# Altium integrated library Dallas Memory Non-Volatile RAM.IntLib: 259 symbols (part 3 of 6)
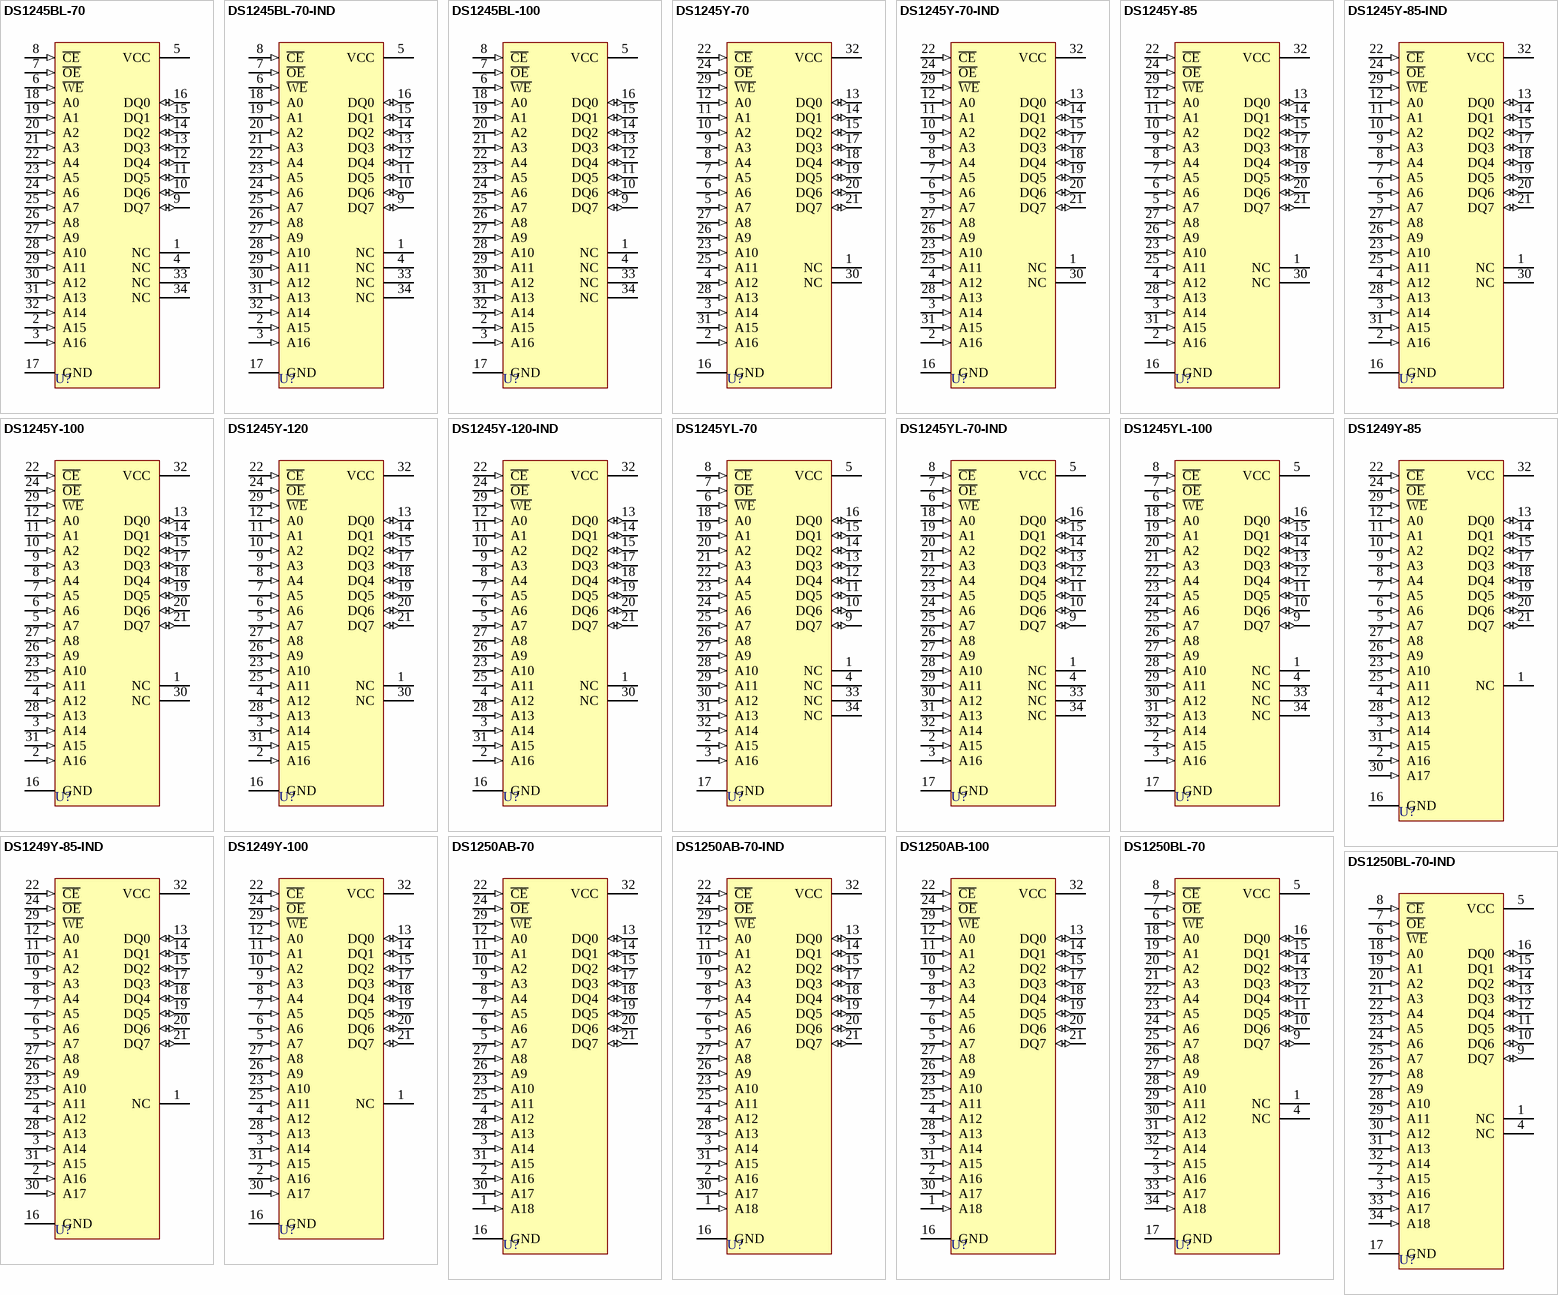
[diagram p13: symbols DS1245BL-70 to DS1250BL-70-IND]

## DS1250BL-70-IND
designator U?
4096K Nonvolatile SRAM; Note: Pin numbers 1 and 4 are Not Connected (NC); Published: 13-Oct-2000; LatestRevisionDate: 17-Jul-2002; LatestRevisionNote: Re-released for DXP Platform.; DatasheetVersion: 25-Feb-1998; PackageVersion: Feb-1998; PackageReference: LPM34; Publisher: Altium Limited; PackageDescription: LPM; 34 Leads; Body 24.6 x 25 mm (LxW typ); Pitch 1.27 mm; ComponentLink1Description: Manufacturer Link; ComponentLink1URL: http://www.maxim-ic.com/; ComponentLink2Description: Datasheet; ComponentLink2URL: http://pdfserv.maxim-ic.com/en/ds/DS1233M.pdf
footprint LPM34
pins: 1 NC, 2 A15 (in), 3 A16 (in), 4 NC, 5 VCC (power), 6 ~{WE} (in), 7 ~{OE} (in), 8 ~{CE} (in), 9 DQ7 (io), 10 DQ6 (io), 11 DQ5 (io), 12 DQ4 (io), 13 DQ3 (io), 14 DQ2 (io), 15 DQ1 (io), 16 DQ0 (io), 17 GND (power), 18 A0 (in), 19 A1 (in), 20 A2 (in), 21 A3 (in), 22 A4 (in), 23 A5 (in), 24 A6 (in), 25 A7 (in), 26 A8 (in), 27 A9 (in), 28 A10 (in), 29 A11 (in), 30 A12 (in), 31 A13 (in), 32 A14 (in), 33 A17 (in), 34 A18 (in)

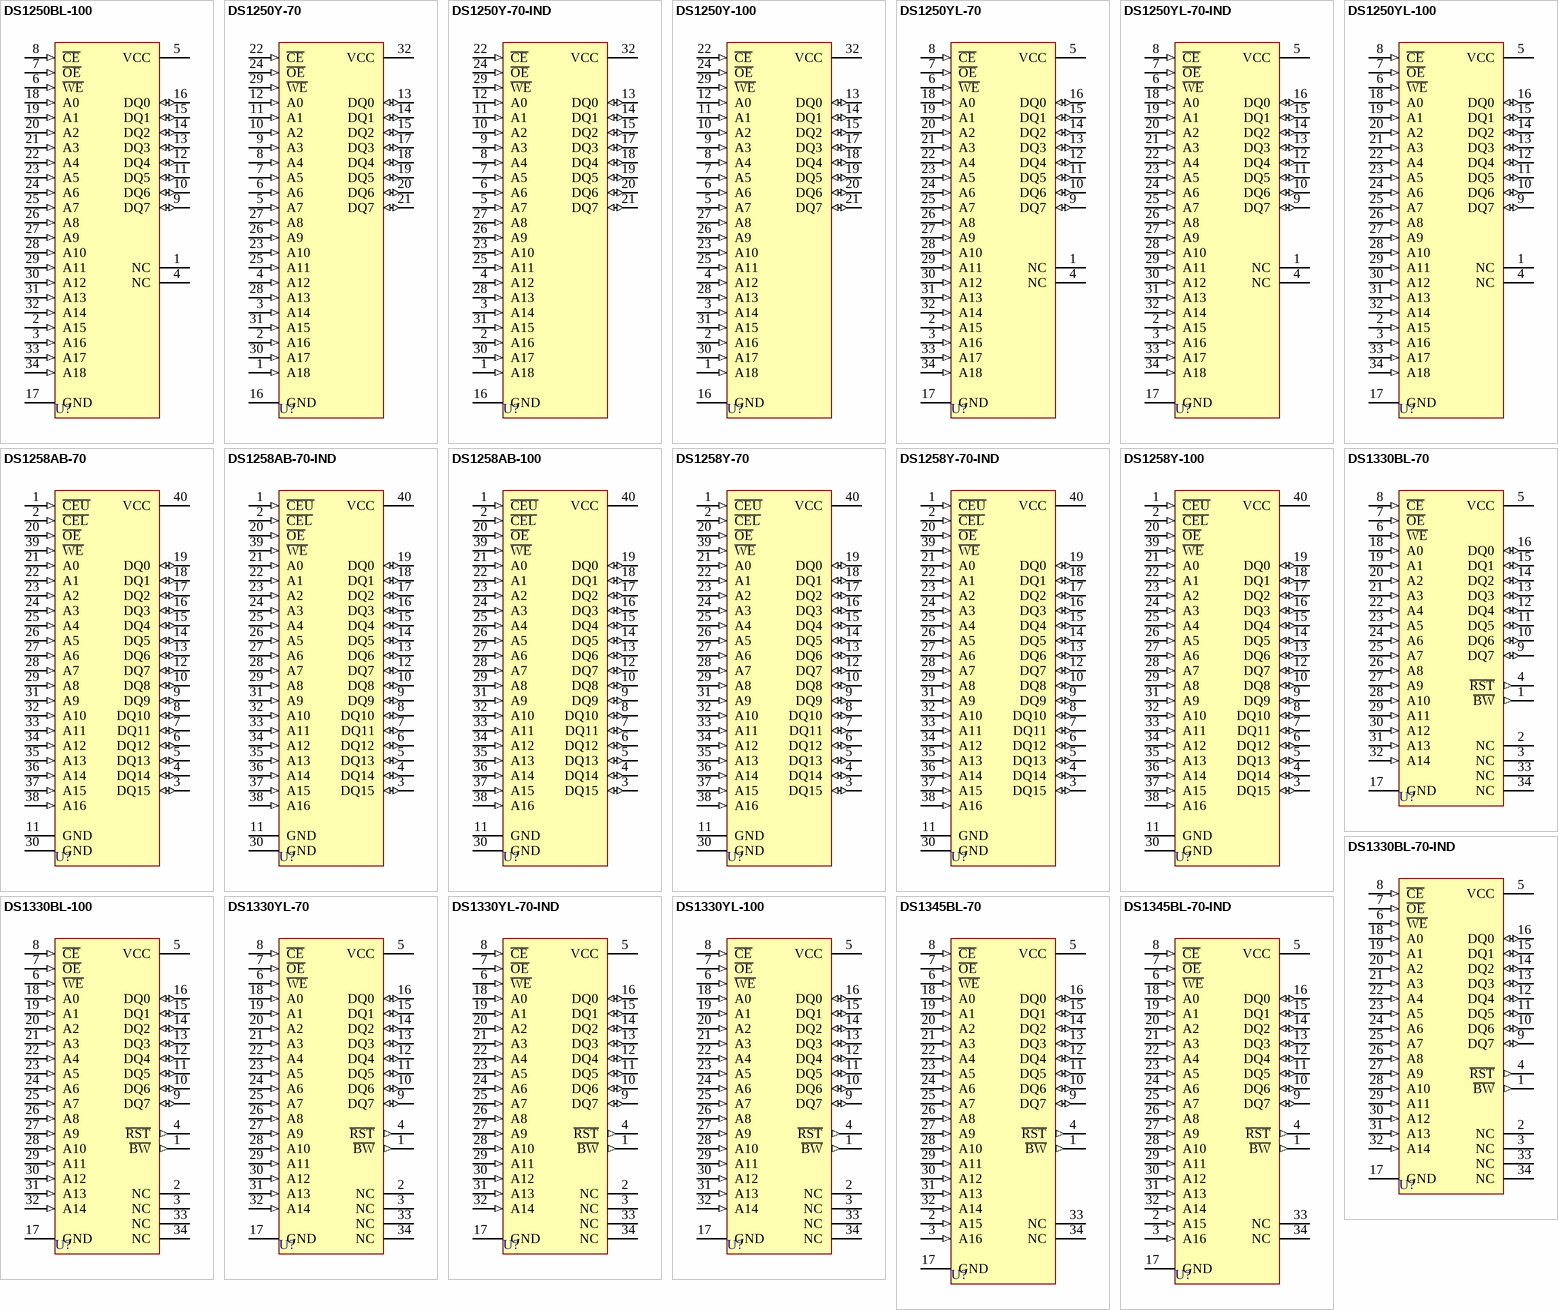
[diagram p4: symbols DS1250BL-100 to DS1345BL-70-IND]

## DS1250BL-100
designator U?
4096K Nonvolatile SRAM; Note: Pin numbers 1 and 4 are Not Connected (NC); Published: 13-Oct-2000; LatestRevisionDate: 17-Jul-2002; LatestRevisionNote: Re-released for DXP Platform.; DatasheetVersion: 25-Feb-1998; PackageVersion: Feb-1998; PackageReference: LPM34; Publisher: Altium Limited; PackageDescription: LPM; 34 Leads; Body 24.6 x 25 mm (LxW typ); Pitch 1.27 mm; ComponentLink1Description: Manufacturer Link; ComponentLink1URL: http://www.maxim-ic.com/; ComponentLink2Description: Datasheet; ComponentLink2URL: http://pdfserv.maxim-ic.com/en/ds/DS1233M.pdf
footprint LPM34
pins: 1 NC, 2 A15 (in), 3 A16 (in), 4 NC, 5 VCC (power), 6 ~{WE} (in), 7 ~{OE} (in), 8 ~{CE} (in), 9 DQ7 (io), 10 DQ6 (io), 11 DQ5 (io), 12 DQ4 (io), 13 DQ3 (io), 14 DQ2 (io), 15 DQ1 (io), 16 DQ0 (io), 17 GND (power), 18 A0 (in), 19 A1 (in), 20 A2 (in), 21 A3 (in), 22 A4 (in), 23 A5 (in), 24 A6 (in), 25 A7 (in), 26 A8 (in), 27 A9 (in), 28 A10 (in), 29 A11 (in), 30 A12 (in), 31 A13 (in), 32 A14 (in), 33 A17 (in), 34 A18 (in)

## DS1250Y-70
designator U?
4096K Nonvolatile SRAM; Published: 13-Oct-2000; LatestRevisionDate: 17-Jul-2002; LatestRevisionNote: PCB footprint, 'DIP-P32/X1.2' replaced; Re-released for DXP Platform.; DatasheetVersion: 23-Apr-1998; PackageReference: ENDIP32; Publisher: Altium Limited; PackageDescription: DIP; 32 Rectangular Pins; Row Space 15.24 mm; Pitch 2.54 mm; ComponentLink1Description: Manufacturer Link; ComponentLink1URL: http://www.maxim-ic.com/; ComponentLink2Description: Datasheet; ComponentLink2URL: http://pdfserv.maxim-ic.com/en/ds/DS1233M.pdf
footprint ENDIP32 (DIP; 32 Rectangular Pins; Row Space 15.24 mm; Pitch 2.54 mm)
pins: 1 A18 (in), 2 A16 (in), 3 A14 (in), 4 A12 (in), 5 A7 (in), 6 A6 (in), 7 A5 (in), 8 A4 (in), 9 A3 (in), 10 A2 (in), 11 A1 (in), 12 A0 (in), 13 DQ0 (io), 14 DQ1 (io), 15 DQ2 (io), 16 GND (power), 17 DQ3 (io), 18 DQ4 (io), 19 DQ5 (io), 20 DQ6 (io), 21 DQ7 (io), 22 ~{CE} (in), 23 A10 (in), 24 ~{OE} (in), 25 A11 (in), 26 A9 (in), 27 A8 (in), 28 A13 (in), 29 ~{WE} (in), 30 A17 (in), 31 A15 (in), 32 VCC (power)

## DS1250Y-70-IND
designator U?
4096K Nonvolatile SRAM; Published: 13-Oct-2000; LatestRevisionDate: 17-Jul-2002; LatestRevisionNote: PCB footprint, 'DIP-P32/X1.2' replaced; Re-released for DXP Platform.; DatasheetVersion: 23-Apr-1998; PackageReference: ENDIP32; Publisher: Altium Limited; PackageDescription: DIP; 32 Rectangular Pins; Row Space 15.24 mm; Pitch 2.54 mm; ComponentLink1Description: Manufacturer Link; ComponentLink1URL: http://www.maxim-ic.com/; ComponentLink2Description: Datasheet; ComponentLink2URL: http://pdfserv.maxim-ic.com/en/ds/DS1250AB-DS1250Y.pdf
footprint ENDIP32 (DIP; 32 Rectangular Pins; Row Space 15.24 mm; Pitch 2.54 mm)
pins: 1 A18 (in), 2 A16 (in), 3 A14 (in), 4 A12 (in), 5 A7 (in), 6 A6 (in), 7 A5 (in), 8 A4 (in), 9 A3 (in), 10 A2 (in), 11 A1 (in), 12 A0 (in), 13 DQ0 (io), 14 DQ1 (io), 15 DQ2 (io), 16 GND (power), 17 DQ3 (io), 18 DQ4 (io), 19 DQ5 (io), 20 DQ6 (io), 21 DQ7 (io), 22 ~{CE} (in), 23 A10 (in), 24 ~{OE} (in), 25 A11 (in), 26 A9 (in), 27 A8 (in), 28 A13 (in), 29 ~{WE} (in), 30 A17 (in), 31 A15 (in), 32 VCC (power)

## DS1250Y-100
designator U?
4096K Nonvolatile SRAM; Published: 13-Oct-2000; LatestRevisionDate: 17-Jul-2002; LatestRevisionNote: PCB footprint, 'DIP-P32/X1.2' replaced; Re-released for DXP Platform.; DatasheetVersion: 23-Apr-1998; PackageReference: ENDIP32; Publisher: Altium Limited; PackageDescription: DIP; 32 Rectangular Pins; Row Space 15.24 mm; Pitch 2.54 mm; ComponentLink1Description: Manufacturer Link; ComponentLink1URL: http://www.maxim-ic.com/; ComponentLink2Description: Datasheet; ComponentLink2URL: http://pdfserv.maxim-ic.com/en/ds/DS1233M.pdf
footprint ENDIP32 (DIP; 32 Rectangular Pins; Row Space 15.24 mm; Pitch 2.54 mm)
pins: 1 A18 (in), 2 A16 (in), 3 A14 (in), 4 A12 (in), 5 A7 (in), 6 A6 (in), 7 A5 (in), 8 A4 (in), 9 A3 (in), 10 A2 (in), 11 A1 (in), 12 A0 (in), 13 DQ0 (io), 14 DQ1 (io), 15 DQ2 (io), 16 GND (power), 17 DQ3 (io), 18 DQ4 (io), 19 DQ5 (io), 20 DQ6 (io), 21 DQ7 (io), 22 ~{CE} (in), 23 A10 (in), 24 ~{OE} (in), 25 A11 (in), 26 A9 (in), 27 A8 (in), 28 A13 (in), 29 ~{WE} (in), 30 A17 (in), 31 A15 (in), 32 VCC (power)

## DS1250YL-70
designator U?
4096K Nonvolatile SRAM; Note: Pin numbers 1 and 4 are Not Connected (NC); Published: 13-Oct-2000; LatestRevisionDate: 17-Jul-2002; LatestRevisionNote: Re-released for DXP Platform.; DatasheetVersion: 25-Feb-1998; PackageVersion: Feb-1998; PackageReference: LPM34; Publisher: Altium Limited; PackageDescription: LPM; 34 Leads; Body 24.6 x 25 mm (LxW typ); Pitch 1.27 mm; ComponentLink1Description: Manufacturer Link; ComponentLink1URL: http://www.maxim-ic.com/; ComponentLink2Description: Datasheet; ComponentLink2URL: http://pdfserv.maxim-ic.com/en/ds/DS1233M.pdf
footprint LPM34
pins: 1 NC, 2 A15 (in), 3 A16 (in), 4 NC, 5 VCC (power), 6 ~{WE} (in), 7 ~{OE} (in), 8 ~{CE} (in), 9 DQ7 (io), 10 DQ6 (io), 11 DQ5 (io), 12 DQ4 (io), 13 DQ3 (io), 14 DQ2 (io), 15 DQ1 (io), 16 DQ0 (io), 17 GND (power), 18 A0 (in), 19 A1 (in), 20 A2 (in), 21 A3 (in), 22 A4 (in), 23 A5 (in), 24 A6 (in), 25 A7 (in), 26 A8 (in), 27 A9 (in), 28 A10 (in), 29 A11 (in), 30 A12 (in), 31 A13 (in), 32 A14 (in), 33 A17 (in), 34 A18 (in)

## DS1250YL-70-IND
designator U?
4096K Nonvolatile SRAM; Note: Pin numbers 1 and 4 are Not Connected (NC); Published: 13-Oct-2000; LatestRevisionDate: 17-Jul-2002; LatestRevisionNote: Re-released for DXP Platform.; DatasheetVersion: 25-Feb-1998; PackageVersion: Feb-1998; PackageReference: LPM34; Publisher: Altium Limited; PackageDescription: LPM; 34 Leads; Body 24.6 x 25 mm (LxW typ); Pitch 1.27 mm; ComponentLink1Description: Manufacturer Link; ComponentLink1URL: http://www.maxim-ic.com/; ComponentLink2Description: Datasheet; ComponentLink2URL: http://pdfserv.maxim-ic.com/en/ds/DS1250AB-DS1250Y.pdf
footprint LPM34
pins: 1 NC, 2 A15 (in), 3 A16 (in), 4 NC, 5 VCC (power), 6 ~{WE} (in), 7 ~{OE} (in), 8 ~{CE} (in), 9 DQ7 (io), 10 DQ6 (io), 11 DQ5 (io), 12 DQ4 (io), 13 DQ3 (io), 14 DQ2 (io), 15 DQ1 (io), 16 DQ0 (io), 17 GND (power), 18 A0 (in), 19 A1 (in), 20 A2 (in), 21 A3 (in), 22 A4 (in), 23 A5 (in), 24 A6 (in), 25 A7 (in), 26 A8 (in), 27 A9 (in), 28 A10 (in), 29 A11 (in), 30 A12 (in), 31 A13 (in), 32 A14 (in), 33 A17 (in), 34 A18 (in)

## DS1250YL-100
designator U?
4096K Nonvolatile SRAM; Note: Pin numbers 1 and 4 are Not Connected (NC); Published: 13-Oct-2000; LatestRevisionDate: 17-Jul-2002; LatestRevisionNote: Re-released for DXP Platform.; DatasheetVersion: 25-Feb-1998; PackageVersion: Feb-1998; PackageReference: LPM34; Publisher: Altium Limited; PackageDescription: LPM; 34 Leads; Body 24.6 x 25 mm (LxW typ); Pitch 1.27 mm; ComponentLink1Description: Manufacturer Link; ComponentLink1URL: http://www.maxim-ic.com/; ComponentLink2Description: Datasheet; ComponentLink2URL: http://pdfserv.maxim-ic.com/en/ds/DS1233M.pdf
footprint LPM34
pins: 1 NC, 2 A15 (in), 3 A16 (in), 4 NC, 5 VCC (power), 6 ~{WE} (in), 7 ~{OE} (in), 8 ~{CE} (in), 9 DQ7 (io), 10 DQ6 (io), 11 DQ5 (io), 12 DQ4 (io), 13 DQ3 (io), 14 DQ2 (io), 15 DQ1 (io), 16 DQ0 (io), 17 GND (power), 18 A0 (in), 19 A1 (in), 20 A2 (in), 21 A3 (in), 22 A4 (in), 23 A5 (in), 24 A6 (in), 25 A7 (in), 26 A8 (in), 27 A9 (in), 28 A10 (in), 29 A11 (in), 30 A12 (in), 31 A13 (in), 32 A14 (in), 33 A17 (in), 34 A18 (in)

## DS1258AB-70
designator U?
128K x 16 Nonvolatile SRAM; Published: 13-Oct-2000; LatestRevisionDate: 17-Jul-2002; LatestRevisionNote: Re-released for DXP Platform.; DatasheetVersion: 25-Feb-1998; PackageReference: ENDIP40; Publisher: Altium Limited; PackageDescription: DIP; 40 Rectangular Pins; Row Space 15.24 mm; Pitch 2.54 mm; ComponentLink1Description: Manufacturer Link; ComponentLink1URL: http://www.maxim-ic.com/; ComponentLink2Description: Datasheet; ComponentLink2URL: http://pdfserv.maxim-ic.com/en/ds/DS1233M.pdf
footprint ENDIP40 (DIP; 40 Rectangular Pins; Row Space 15.24 mm; Pitch 2.54 mm)
pins: 1 ~{CEU} (in), 2 ~{CEL} (in), 3 DQ15 (io), 4 DQ14 (io), 5 DQ13 (io), 6 DQ12 (io), 7 DQ11 (io), 8 DQ10 (io), 9 DQ9 (io), 10 DQ8 (io), 11 GND (power), 12 DQ7 (io), 13 DQ6 (io), 14 DQ5 (io), 15 DQ4 (io), 16 DQ3 (io), 17 DQ2 (io), 18 DQ1 (io), 19 DQ0 (io), 20 ~{OE} (in), 21 A0 (in), 22 A1 (in), 23 A2 (in), 24 A3 (in), 25 A4 (in), 26 A5 (in), 27 A6 (in), 28 A7 (in), 29 A8 (in), 30 GND (power), 31 A9 (in), 32 A10 (in), 33 A11 (in), 34 A12 (in), 35 A13 (in), 36 A14 (in), 37 A15 (in), 38 A16 (in), 39 ~{WE} (in), 40 VCC (power)

## DS1258AB-70-IND
designator U?
128K x 16 Nonvolatile SRAM; Published: 13-Oct-2000; LatestRevisionDate: 17-Jul-2002; LatestRevisionNote: Re-released for DXP Platform.; DatasheetVersion: 25-Feb-1998; PackageReference: ENDIP40; Publisher: Altium Limited; PackageDescription: DIP; 40 Rectangular Pins; Row Space 15.24 mm; Pitch 2.54 mm; ComponentLink1Description: Manufacturer Link; ComponentLink1URL: http://www.maxim-ic.com/; ComponentLink2Description: Datasheet; ComponentLink2URL: http://pdfserv.maxim-ic.com/en/ds/DS1233M.pdf
footprint ENDIP40 (DIP; 40 Rectangular Pins; Row Space 15.24 mm; Pitch 2.54 mm)
pins: 1 ~{CEU} (in), 2 ~{CEL} (in), 3 DQ15 (io), 4 DQ14 (io), 5 DQ13 (io), 6 DQ12 (io), 7 DQ11 (io), 8 DQ10 (io), 9 DQ9 (io), 10 DQ8 (io), 11 GND (power), 12 DQ7 (io), 13 DQ6 (io), 14 DQ5 (io), 15 DQ4 (io), 16 DQ3 (io), 17 DQ2 (io), 18 DQ1 (io), 19 DQ0 (io), 20 ~{OE} (in), 21 A0 (in), 22 A1 (in), 23 A2 (in), 24 A3 (in), 25 A4 (in), 26 A5 (in), 27 A6 (in), 28 A7 (in), 29 A8 (in), 30 GND (power), 31 A9 (in), 32 A10 (in), 33 A11 (in), 34 A12 (in), 35 A13 (in), 36 A14 (in), 37 A15 (in), 38 A16 (in), 39 ~{WE} (in), 40 VCC (power)

## DS1258AB-100
designator U?
128K x 16 Nonvolatile SRAM; Published: 13-Oct-2000; LatestRevisionDate: 17-Jul-2002; LatestRevisionNote: Re-released for DXP Platform.; DatasheetVersion: 25-Feb-1998; PackageReference: ENDIP40; Publisher: Altium Limited; PackageDescription: DIP; 40 Rectangular Pins; Row Space 15.24 mm; Pitch 2.54 mm; ComponentLink1Description: Manufacturer Link; ComponentLink1URL: http://www.maxim-ic.com/; ComponentLink2Description: Datasheet; ComponentLink2URL: http://pdfserv.maxim-ic.com/en/ds/DS1233M.pdf
footprint ENDIP40 (DIP; 40 Rectangular Pins; Row Space 15.24 mm; Pitch 2.54 mm)
pins: 1 ~{CEU} (in), 2 ~{CEL} (in), 3 DQ15 (io), 4 DQ14 (io), 5 DQ13 (io), 6 DQ12 (io), 7 DQ11 (io), 8 DQ10 (io), 9 DQ9 (io), 10 DQ8 (io), 11 GND (power), 12 DQ7 (io), 13 DQ6 (io), 14 DQ5 (io), 15 DQ4 (io), 16 DQ3 (io), 17 DQ2 (io), 18 DQ1 (io), 19 DQ0 (io), 20 ~{OE} (in), 21 A0 (in), 22 A1 (in), 23 A2 (in), 24 A3 (in), 25 A4 (in), 26 A5 (in), 27 A6 (in), 28 A7 (in), 29 A8 (in), 30 GND (power), 31 A9 (in), 32 A10 (in), 33 A11 (in), 34 A12 (in), 35 A13 (in), 36 A14 (in), 37 A15 (in), 38 A16 (in), 39 ~{WE} (in), 40 VCC (power)

## DS1258Y-70
designator U?
128K x 16 Nonvolatile SRAM; Published: 13-Oct-2000; LatestRevisionDate: 17-Jul-2002; LatestRevisionNote: Re-released for DXP Platform.; DatasheetVersion: 25-Feb-1998; PackageReference: ENDIP40; Publisher: Altium Limited; PackageDescription: DIP; 40 Rectangular Pins; Row Space 15.24 mm; Pitch 2.54 mm; ComponentLink1Description: Manufacturer Link; ComponentLink1URL: http://www.maxim-ic.com/; ComponentLink2Description: Datasheet; ComponentLink2URL: http://pdfserv.maxim-ic.com/en/ds/DS1233M.pdf
footprint ENDIP40 (DIP; 40 Rectangular Pins; Row Space 15.24 mm; Pitch 2.54 mm)
pins: 1 ~{CEU} (in), 2 ~{CEL} (in), 3 DQ15 (io), 4 DQ14 (io), 5 DQ13 (io), 6 DQ12 (io), 7 DQ11 (io), 8 DQ10 (io), 9 DQ9 (io), 10 DQ8 (io), 11 GND (power), 12 DQ7 (io), 13 DQ6 (io), 14 DQ5 (io), 15 DQ4 (io), 16 DQ3 (io), 17 DQ2 (io), 18 DQ1 (io), 19 DQ0 (io), 20 ~{OE} (in), 21 A0 (in), 22 A1 (in), 23 A2 (in), 24 A3 (in), 25 A4 (in), 26 A5 (in), 27 A6 (in), 28 A7 (in), 29 A8 (in), 30 GND (power), 31 A9 (in), 32 A10 (in), 33 A11 (in), 34 A12 (in), 35 A13 (in), 36 A14 (in), 37 A15 (in), 38 A16 (in), 39 ~{WE} (in), 40 VCC (power)

## DS1258Y-70-IND
designator U?
128K x 16 Nonvolatile SRAM; Published: 13-Oct-2000; LatestRevisionDate: 17-Jul-2002; LatestRevisionNote: Re-released for DXP Platform.; DatasheetVersion: 25-Feb-1998; PackageReference: ENDIP40; Publisher: Altium Limited; PackageDescription: DIP; 40 Rectangular Pins; Row Space 15.24 mm; Pitch 2.54 mm; ComponentLink1Description: Manufacturer Link; ComponentLink1URL: http://www.maxim-ic.com/; ComponentLink2Description: Datasheet; ComponentLink2URL: http://pdfserv.maxim-ic.com/en/ds/DS1258AB-DS1258Y.pdf
footprint ENDIP40 (DIP; 40 Rectangular Pins; Row Space 15.24 mm; Pitch 2.54 mm)
pins: 1 ~{CEU} (in), 2 ~{CEL} (in), 3 DQ15 (io), 4 DQ14 (io), 5 DQ13 (io), 6 DQ12 (io), 7 DQ11 (io), 8 DQ10 (io), 9 DQ9 (io), 10 DQ8 (io), 11 GND (power), 12 DQ7 (io), 13 DQ6 (io), 14 DQ5 (io), 15 DQ4 (io), 16 DQ3 (io), 17 DQ2 (io), 18 DQ1 (io), 19 DQ0 (io), 20 ~{OE} (in), 21 A0 (in), 22 A1 (in), 23 A2 (in), 24 A3 (in), 25 A4 (in), 26 A5 (in), 27 A6 (in), 28 A7 (in), 29 A8 (in), 30 GND (power), 31 A9 (in), 32 A10 (in), 33 A11 (in), 34 A12 (in), 35 A13 (in), 36 A14 (in), 37 A15 (in), 38 A16 (in), 39 ~{WE} (in), 40 VCC (power)

## DS1258Y-100
designator U?
128K x 16 Nonvolatile SRAM; Published: 13-Oct-2000; LatestRevisionDate: 17-Jul-2002; LatestRevisionNote: Re-released for DXP Platform.; DatasheetVersion: 25-Feb-1998; PackageReference: ENDIP40; Publisher: Altium Limited; PackageDescription: DIP; 40 Rectangular Pins; Row Space 15.24 mm; Pitch 2.54 mm; ComponentLink1Description: Manufacturer Link; ComponentLink1URL: http://www.maxim-ic.com/; ComponentLink2Description: Datasheet; ComponentLink2URL: http://pdfserv.maxim-ic.com/en/ds/DS1233M.pdf
footprint ENDIP40 (DIP; 40 Rectangular Pins; Row Space 15.24 mm; Pitch 2.54 mm)
pins: 1 ~{CEU} (in), 2 ~{CEL} (in), 3 DQ15 (io), 4 DQ14 (io), 5 DQ13 (io), 6 DQ12 (io), 7 DQ11 (io), 8 DQ10 (io), 9 DQ9 (io), 10 DQ8 (io), 11 GND (power), 12 DQ7 (io), 13 DQ6 (io), 14 DQ5 (io), 15 DQ4 (io), 16 DQ3 (io), 17 DQ2 (io), 18 DQ1 (io), 19 DQ0 (io), 20 ~{OE} (in), 21 A0 (in), 22 A1 (in), 23 A2 (in), 24 A3 (in), 25 A4 (in), 26 A5 (in), 27 A6 (in), 28 A7 (in), 29 A8 (in), 30 GND (power), 31 A9 (in), 32 A10 (in), 33 A11 (in), 34 A12 (in), 35 A13 (in), 36 A14 (in), 37 A15 (in), 38 A16 (in), 39 ~{WE} (in), 40 VCC (power)

## DS1330BL-70
designator U?
256K Nonvolatile SRAM with Battery Monitor; Note: Pin numbers 2, 3, 33 and 34 are Not Connected (NC); Published: 13-Oct-2000; LatestRevisionDate: 17-Jul-2002; LatestRevisionNote: Re-released for DXP Platform.; DatasheetVersion: 25-Feb-1998; PackageVersion: Feb-1998; PackageReference: LPM34; Publisher: Altium Limited; PackageDescription: LPM; 34 Leads; Body 24.6 x 25 mm (LxW typ); Pitch 1.27 mm; ComponentLink1Description: Manufacturer Link; ComponentLink1URL: http://www.maxim-ic.com/; ComponentLink2Description: Datasheet; ComponentLink2URL: http://pdfserv.maxim-ic.com/en/ds/DS1330AB-DS1330Y.pdf
footprint LPM34
pins: 1 ~{BW} (out), 2 NC, 3 NC, 4 ~{RST} (out), 5 VCC (power), 6 ~{WE} (in), 7 ~{OE} (in), 8 ~{CE} (in), 9 DQ7 (io), 10 DQ6 (io), 11 DQ5 (io), 12 DQ4 (io), 13 DQ3 (io), 14 DQ2 (io), 15 DQ1 (io), 16 DQ0 (io), 17 GND (power), 18 A0 (in), 19 A1 (in), 20 A2 (in), 21 A3 (in), 22 A4 (in), 23 A5 (in), 24 A6 (in), 25 A7 (in), 26 A8 (in), 27 A9 (in), 28 A10 (in), 29 A11 (in), 30 A12 (in), 31 A13 (in), 32 A14 (in), 33 NC, 34 NC

## DS1330BL-70-IND
designator U?
256K Nonvolatile SRAM with Battery Monitor; Note: Pin numbers 2, 3, 33 and 34 are Not Connected (NC); Published: 13-Oct-2000; LatestRevisionDate: 17-Jul-2002; LatestRevisionNote: Re-released for DXP Platform.; DatasheetVersion: 25-Feb-1998; PackageVersion: Feb-1998; PackageReference: LPM34; Publisher: Altium Limited; PackageDescription: LPM; 34 Leads; Body 24.6 x 25 mm (LxW typ); Pitch 1.27 mm; ComponentLink1Description: Manufacturer Link; ComponentLink1URL: http://www.maxim-ic.com/; ComponentLink2Description: Datasheet; ComponentLink2URL: http://pdfserv.maxim-ic.com/en/ds/DS1330AB-DS1330Y.pdf
footprint LPM34
pins: 1 ~{BW} (out), 2 NC, 3 NC, 4 ~{RST} (out), 5 VCC (power), 6 ~{WE} (in), 7 ~{OE} (in), 8 ~{CE} (in), 9 DQ7 (io), 10 DQ6 (io), 11 DQ5 (io), 12 DQ4 (io), 13 DQ3 (io), 14 DQ2 (io), 15 DQ1 (io), 16 DQ0 (io), 17 GND (power), 18 A0 (in), 19 A1 (in), 20 A2 (in), 21 A3 (in), 22 A4 (in), 23 A5 (in), 24 A6 (in), 25 A7 (in), 26 A8 (in), 27 A9 (in), 28 A10 (in), 29 A11 (in), 30 A12 (in), 31 A13 (in), 32 A14 (in), 33 NC, 34 NC

## DS1330BL-100
designator U?
256K Nonvolatile SRAM with Battery Monitor; Note: Pin numbers 2, 3, 33 and 34 are Not Connected (NC); Published: 13-Oct-2000; LatestRevisionDate: 17-Jul-2002; LatestRevisionNote: Re-released for DXP Platform.; DatasheetVersion: 25-Feb-1998; PackageVersion: Feb-1998; PackageReference: LPM34; Publisher: Altium Limited; PackageDescription: LPM; 34 Leads; Body 24.6 x 25 mm (LxW typ); Pitch 1.27 mm; ComponentLink1Description: Manufacturer Link; ComponentLink1URL: http://www.maxim-ic.com/; ComponentLink2Description: Datasheet; ComponentLink2URL: http://pdfserv.maxim-ic.com/en/ds/DS1330AB-DS1330Y.pdf
footprint LPM34
pins: 1 ~{BW} (out), 2 NC, 3 NC, 4 ~{RST} (out), 5 VCC (power), 6 ~{WE} (in), 7 ~{OE} (in), 8 ~{CE} (in), 9 DQ7 (io), 10 DQ6 (io), 11 DQ5 (io), 12 DQ4 (io), 13 DQ3 (io), 14 DQ2 (io), 15 DQ1 (io), 16 DQ0 (io), 17 GND (power), 18 A0 (in), 19 A1 (in), 20 A2 (in), 21 A3 (in), 22 A4 (in), 23 A5 (in), 24 A6 (in), 25 A7 (in), 26 A8 (in), 27 A9 (in), 28 A10 (in), 29 A11 (in), 30 A12 (in), 31 A13 (in), 32 A14 (in), 33 NC, 34 NC

## DS1330YL-70
designator U?
256K Nonvolatile SRAM with Battery Monitor; Note: Pin numbers 2, 3, 33 and 34 are Not Connected (NC); Published: 13-Oct-2000; LatestRevisionDate: 17-Jul-2002; LatestRevisionNote: Re-released for DXP Platform.; DatasheetVersion: 25-Feb-1998; PackageVersion: Feb-1998; PackageReference: LPM34; Publisher: Altium Limited; PackageDescription: LPM; 34 Leads; Body 24.6 x 25 mm (LxW typ); Pitch 1.27 mm; ComponentLink1Description: Manufacturer Link; ComponentLink1URL: http://www.maxim-ic.com/; ComponentLink2Description: Datasheet; ComponentLink2URL: http://pdfserv.maxim-ic.com/en/ds/DS1330AB-DS1330Y.pdf
footprint LPM34
pins: 1 ~{BW} (out), 2 NC, 3 NC, 4 ~{RST} (out), 5 VCC (power), 6 ~{WE} (in), 7 ~{OE} (in), 8 ~{CE} (in), 9 DQ7 (io), 10 DQ6 (io), 11 DQ5 (io), 12 DQ4 (io), 13 DQ3 (io), 14 DQ2 (io), 15 DQ1 (io), 16 DQ0 (io), 17 GND (power), 18 A0 (in), 19 A1 (in), 20 A2 (in), 21 A3 (in), 22 A4 (in), 23 A5 (in), 24 A6 (in), 25 A7 (in), 26 A8 (in), 27 A9 (in), 28 A10 (in), 29 A11 (in), 30 A12 (in), 31 A13 (in), 32 A14 (in), 33 NC, 34 NC

## DS1330YL-70-IND
designator U?
256K Nonvolatile SRAM with Battery Monitor; Note: Pin numbers 2, 3, 33 and 34 are Not Connected (NC); Published: 13-Oct-2000; LatestRevisionDate: 17-Jul-2002; LatestRevisionNote: Re-released for DXP Platform.; DatasheetVersion: 25-Feb-1998; PackageVersion: Feb-1998; PackageReference: LPM34; Publisher: Altium Limited; PackageDescription: LPM; 34 Leads; Body 24.6 x 25 mm (LxW typ); Pitch 1.27 mm; ComponentLink1Description: Manufacturer Link; ComponentLink1URL: http://www.maxim-ic.com/; ComponentLink2Description: Datasheet; ComponentLink2URL: http://pdfserv.maxim-ic.com/en/ds/DS1330AB-DS1330Y.pdf
footprint LPM34
pins: 1 ~{BW} (out), 2 NC, 3 NC, 4 ~{RST} (out), 5 VCC (power), 6 ~{WE} (in), 7 ~{OE} (in), 8 ~{CE} (in), 9 DQ7 (io), 10 DQ6 (io), 11 DQ5 (io), 12 DQ4 (io), 13 DQ3 (io), 14 DQ2 (io), 15 DQ1 (io), 16 DQ0 (io), 17 GND (power), 18 A0 (in), 19 A1 (in), 20 A2 (in), 21 A3 (in), 22 A4 (in), 23 A5 (in), 24 A6 (in), 25 A7 (in), 26 A8 (in), 27 A9 (in), 28 A10 (in), 29 A11 (in), 30 A12 (in), 31 A13 (in), 32 A14 (in), 33 NC, 34 NC

## DS1330YL-100
designator U?
256K Nonvolatile SRAM with Battery Monitor; Note: Pin numbers 2, 3, 33 and 34 are Not Connected (NC); Published: 13-Oct-2000; LatestRevisionDate: 17-Jul-2002; LatestRevisionNote: Re-released for DXP Platform.; DatasheetVersion: 25-Feb-1998; PackageVersion: Feb-1998; PackageReference: LPM34; Publisher: Altium Limited; PackageDescription: LPM; 34 Leads; Body 24.6 x 25 mm (LxW typ); Pitch 1.27 mm; ComponentLink1Description: Manufacturer Link; ComponentLink1URL: http://www.maxim-ic.com/; ComponentLink2Description: Datasheet; ComponentLink2URL: http://pdfserv.maxim-ic.com/en/ds/DS1330AB-DS1330Y.pdf
footprint LPM34
pins: 1 ~{BW} (out), 2 NC, 3 NC, 4 ~{RST} (out), 5 VCC (power), 6 ~{WE} (in), 7 ~{OE} (in), 8 ~{CE} (in), 9 DQ7 (io), 10 DQ6 (io), 11 DQ5 (io), 12 DQ4 (io), 13 DQ3 (io), 14 DQ2 (io), 15 DQ1 (io), 16 DQ0 (io), 17 GND (power), 18 A0 (in), 19 A1 (in), 20 A2 (in), 21 A3 (in), 22 A4 (in), 23 A5 (in), 24 A6 (in), 25 A7 (in), 26 A8 (in), 27 A9 (in), 28 A10 (in), 29 A11 (in), 30 A12 (in), 31 A13 (in), 32 A14 (in), 33 NC, 34 NC

## DS1345BL-70
designator U?
1024K Nonvolatile SRAM with Battery Monitor; Note: Pin numbers 33 and 34 are Not Connected (NC); Published: 13-Oct-2000; LatestRevisionDate: 17-Jul-2002; LatestRevisionNote: Re-released for DXP Platform.; DatasheetVersion: 25-Feb-1998; PackageVersion: Feb-1998; PackageReference: LPM34; Publisher: Altium Limited; PackageDescription: LPM; 34 Leads; Body 24.6 x 25 mm (LxW typ); Pitch 1.27 mm; ComponentLink1Description: Manufacturer Link; ComponentLink1URL: http://www.maxim-ic.com/; ComponentLink2Description: Datasheet; ComponentLink2URL: http://pdfserv.maxim-ic.com/en/ds/DS1345AB-DS1345Y.pdf
footprint LPM34
pins: 1 ~{BW} (out), 2 A15 (in), 3 A16 (in), 4 ~{RST} (out), 5 VCC (power), 6 ~{WE} (in), 7 ~{OE} (in), 8 ~{CE} (in), 9 DQ7 (io), 10 DQ6 (io), 11 DQ5 (io), 12 DQ4 (io), 13 DQ3 (io), 14 DQ2 (io), 15 DQ1 (io), 16 DQ0 (io), 17 GND (power), 18 A0 (in), 19 A1 (in), 20 A2 (in), 21 A3 (in), 22 A4 (in), 23 A5 (in), 24 A6 (in), 25 A7 (in), 26 A8 (in), 27 A9 (in), 28 A10 (in), 29 A11 (in), 30 A12 (in), 31 A13 (in), 32 A14 (in), 33 NC, 34 NC

## DS1345BL-70-IND
designator U?
1024K Nonvolatile SRAM with Battery Monitor; Note: Pin numbers 33 and 34 are Not Connected (NC); Published: 13-Oct-2000; LatestRevisionDate: 17-Jul-2002; LatestRevisionNote: Re-released for DXP Platform.; DatasheetVersion: 25-Feb-1998; PackageVersion: Feb-1998; PackageReference: LPM34; Publisher: Altium Limited; PackageDescription: LPM; 34 Leads; Body 24.6 x 25 mm (LxW typ); Pitch 1.27 mm; ComponentLink1Description: Manufacturer Link; ComponentLink1URL: http://www.maxim-ic.com/; ComponentLink2Description: Datasheet; ComponentLink2URL: http://pdfserv.maxim-ic.com/en/ds/DS1345AB-DS1345Y.pdf
footprint LPM34
pins: 1 ~{BW} (out), 2 A15 (in), 3 A16 (in), 4 ~{RST} (out), 5 VCC (power), 6 ~{WE} (in), 7 ~{OE} (in), 8 ~{CE} (in), 9 DQ7 (io), 10 DQ6 (io), 11 DQ5 (io), 12 DQ4 (io), 13 DQ3 (io), 14 DQ2 (io), 15 DQ1 (io), 16 DQ0 (io), 17 GND (power), 18 A0 (in), 19 A1 (in), 20 A2 (in), 21 A3 (in), 22 A4 (in), 23 A5 (in), 24 A6 (in), 25 A7 (in), 26 A8 (in), 27 A9 (in), 28 A10 (in), 29 A11 (in), 30 A12 (in), 31 A13 (in), 32 A14 (in), 33 NC, 34 NC

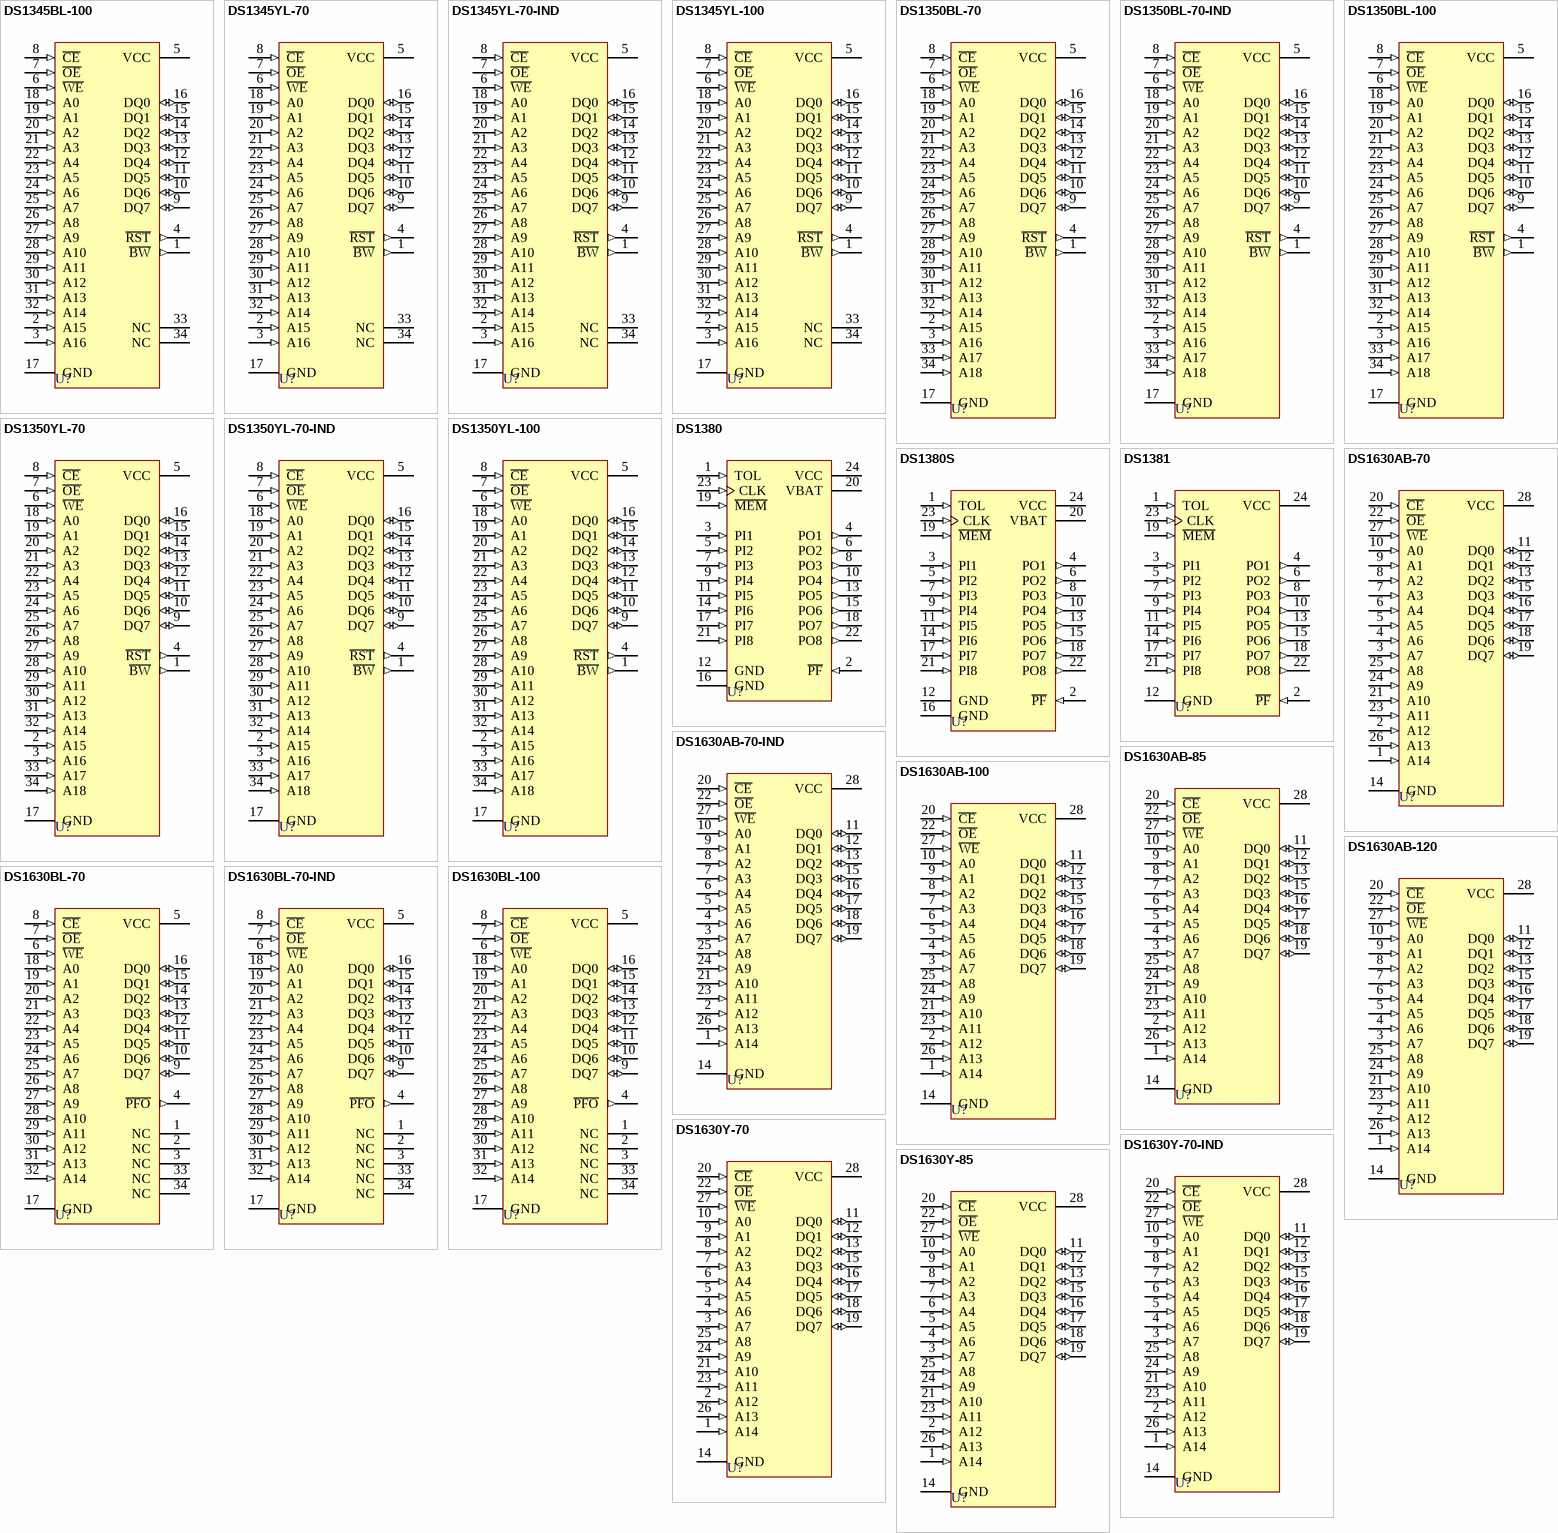
[diagram p5: symbols DS1345BL-100 to DS1630Y-85]

## DS1345BL-100
designator U?
1024K Nonvolatile SRAM with Battery Monitor; Note: Pin numbers 33 and 34 are Not Connected (NC); Published: 13-Oct-2000; LatestRevisionDate: 17-Jul-2002; LatestRevisionNote: Re-released for DXP Platform.; DatasheetVersion: 25-Feb-1998; PackageVersion: Feb-1998; PackageReference: LPM34; Publisher: Altium Limited; PackageDescription: LPM; 34 Leads; Body 24.6 x 25 mm (LxW typ); Pitch 1.27 mm; ComponentLink1Description: Manufacturer Link; ComponentLink1URL: http://www.maxim-ic.com/; ComponentLink2Description: Datasheet; ComponentLink2URL: http://pdfserv.maxim-ic.com/en/ds/DS1345AB-DS1345Y.pdf
footprint LPM34
pins: 1 ~{BW} (out), 2 A15 (in), 3 A16 (in), 4 ~{RST} (out), 5 VCC (power), 6 ~{WE} (in), 7 ~{OE} (in), 8 ~{CE} (in), 9 DQ7 (io), 10 DQ6 (io), 11 DQ5 (io), 12 DQ4 (io), 13 DQ3 (io), 14 DQ2 (io), 15 DQ1 (io), 16 DQ0 (io), 17 GND (power), 18 A0 (in), 19 A1 (in), 20 A2 (in), 21 A3 (in), 22 A4 (in), 23 A5 (in), 24 A6 (in), 25 A7 (in), 26 A8 (in), 27 A9 (in), 28 A10 (in), 29 A11 (in), 30 A12 (in), 31 A13 (in), 32 A14 (in), 33 NC, 34 NC

## DS1345YL-70
designator U?
1024K Nonvolatile SRAM with Battery Monitor; Note: Pin numbers 33 and 34 are Not Connected (NC); Published: 13-Oct-2000; LatestRevisionDate: 17-Jul-2002; LatestRevisionNote: Re-released for DXP Platform.; DatasheetVersion: 25-Feb-1998; PackageVersion: Feb-1998; PackageReference: LPM34; Publisher: Altium Limited; PackageDescription: LPM; 34 Leads; Body 24.6 x 25 mm (LxW typ); Pitch 1.27 mm; ComponentLink1Description: Manufacturer Link; ComponentLink1URL: http://www.maxim-ic.com/; ComponentLink2Description: Datasheet; ComponentLink2URL: http://pdfserv.maxim-ic.com/en/ds/DS1345AB-DS1345Y.pdf
footprint LPM34
pins: 1 ~{BW} (out), 2 A15 (in), 3 A16 (in), 4 ~{RST} (out), 5 VCC (power), 6 ~{WE} (in), 7 ~{OE} (in), 8 ~{CE} (in), 9 DQ7 (io), 10 DQ6 (io), 11 DQ5 (io), 12 DQ4 (io), 13 DQ3 (io), 14 DQ2 (io), 15 DQ1 (io), 16 DQ0 (io), 17 GND (power), 18 A0 (in), 19 A1 (in), 20 A2 (in), 21 A3 (in), 22 A4 (in), 23 A5 (in), 24 A6 (in), 25 A7 (in), 26 A8 (in), 27 A9 (in), 28 A10 (in), 29 A11 (in), 30 A12 (in), 31 A13 (in), 32 A14 (in), 33 NC, 34 NC

## DS1345YL-70-IND
designator U?
1024K Nonvolatile SRAM with Battery Monitor; Note: Pin numbers 33 and 34 are Not Connected (NC); Published: 13-Oct-2000; LatestRevisionDate: 17-Jul-2002; LatestRevisionNote: Re-released for DXP Platform.; DatasheetVersion: 25-Feb-1998; PackageVersion: Feb-1998; PackageReference: LPM34; Publisher: Altium Limited; PackageDescription: LPM; 34 Leads; Body 24.6 x 25 mm (LxW typ); Pitch 1.27 mm; ComponentLink1Description: Manufacturer Link; ComponentLink1URL: http://www.maxim-ic.com/; ComponentLink2Description: Datasheet; ComponentLink2URL: http://pdfserv.maxim-ic.com/en/ds/DS1345AB-DS1345Y.pdf
footprint LPM34
pins: 1 ~{BW} (out), 2 A15 (in), 3 A16 (in), 4 ~{RST} (out), 5 VCC (power), 6 ~{WE} (in), 7 ~{OE} (in), 8 ~{CE} (in), 9 DQ7 (io), 10 DQ6 (io), 11 DQ5 (io), 12 DQ4 (io), 13 DQ3 (io), 14 DQ2 (io), 15 DQ1 (io), 16 DQ0 (io), 17 GND (power), 18 A0 (in), 19 A1 (in), 20 A2 (in), 21 A3 (in), 22 A4 (in), 23 A5 (in), 24 A6 (in), 25 A7 (in), 26 A8 (in), 27 A9 (in), 28 A10 (in), 29 A11 (in), 30 A12 (in), 31 A13 (in), 32 A14 (in), 33 NC, 34 NC

## DS1345YL-100
designator U?
1024K Nonvolatile SRAM with Battery Monitor; Note: Pin numbers 33 and 34 are Not Connected (NC); Published: 13-Oct-2000; LatestRevisionDate: 17-Jul-2002; LatestRevisionNote: Re-released for DXP Platform.; DatasheetVersion: 25-Feb-1998; PackageVersion: Feb-1998; PackageReference: LPM34; Publisher: Altium Limited; PackageDescription: LPM; 34 Leads; Body 24.6 x 25 mm (LxW typ); Pitch 1.27 mm; ComponentLink1Description: Manufacturer Link; ComponentLink1URL: http://www.maxim-ic.com/; ComponentLink2Description: Datasheet; ComponentLink2URL: http://pdfserv.maxim-ic.com/en/ds/DS1345AB-DS1345Y.pdf
footprint LPM34
pins: 1 ~{BW} (out), 2 A15 (in), 3 A16 (in), 4 ~{RST} (out), 5 VCC (power), 6 ~{WE} (in), 7 ~{OE} (in), 8 ~{CE} (in), 9 DQ7 (io), 10 DQ6 (io), 11 DQ5 (io), 12 DQ4 (io), 13 DQ3 (io), 14 DQ2 (io), 15 DQ1 (io), 16 DQ0 (io), 17 GND (power), 18 A0 (in), 19 A1 (in), 20 A2 (in), 21 A3 (in), 22 A4 (in), 23 A5 (in), 24 A6 (in), 25 A7 (in), 26 A8 (in), 27 A9 (in), 28 A10 (in), 29 A11 (in), 30 A12 (in), 31 A13 (in), 32 A14 (in), 33 NC, 34 NC

## DS1350BL-70
designator U?
4096K Nonvolatile SRAM with Battery Monitor; Published: 13-Oct-2000; LatestRevisionDate: 17-Jul-2002; LatestRevisionNote: Re-released for DXP Platform.; DatasheetVersion: 25-Feb-1998; PackageVersion: Feb-1998; PackageReference: LPM34; Publisher: Altium Limited; PackageDescription: LPM; 34 Leads; Body 24.6 x 25 mm (LxW typ); Pitch 1.27 mm; ComponentLink1Description: Manufacturer Link; ComponentLink1URL: http://www.maxim-ic.com/; ComponentLink2Description: Datasheet; ComponentLink2URL: http://pdfserv.maxim-ic.com/en/ds/DS1350AB-DS1350Y.pdf
footprint LPM34
pins: 1 ~{BW} (out), 2 A15 (in), 3 A16 (in), 4 ~{RST} (out), 5 VCC (power), 6 ~{WE} (in), 7 ~{OE} (in), 8 ~{CE} (in), 9 DQ7 (io), 10 DQ6 (io), 11 DQ5 (io), 12 DQ4 (io), 13 DQ3 (io), 14 DQ2 (io), 15 DQ1 (io), 16 DQ0 (io), 17 GND (power), 18 A0 (in), 19 A1 (in), 20 A2 (in), 21 A3 (in), 22 A4 (in), 23 A5 (in), 24 A6 (in), 25 A7 (in), 26 A8 (in), 27 A9 (in), 28 A10 (in), 29 A11 (in), 30 A12 (in), 31 A13 (in), 32 A14 (in), 33 A17 (in), 34 A18 (in)

## DS1350BL-70-IND
designator U?
4096K Nonvolatile SRAM with Battery Monitor; Published: 13-Oct-2000; LatestRevisionDate: 17-Jul-2002; LatestRevisionNote: Re-released for DXP Platform.; DatasheetVersion: 25-Feb-1998; PackageVersion: Feb-1998; PackageReference: LPM34; Publisher: Altium Limited; PackageDescription: LPM; 34 Leads; Body 24.6 x 25 mm (LxW typ); Pitch 1.27 mm; ComponentLink1Description: Manufacturer Link; ComponentLink1URL: http://www.maxim-ic.com/; ComponentLink2Description: Datasheet; ComponentLink2URL: http://pdfserv.maxim-ic.com/en/ds/DS1350AB-DS1350Y.pdf
footprint LPM34
pins: 1 ~{BW} (out), 2 A15 (in), 3 A16 (in), 4 ~{RST} (out), 5 VCC (power), 6 ~{WE} (in), 7 ~{OE} (in), 8 ~{CE} (in), 9 DQ7 (io), 10 DQ6 (io), 11 DQ5 (io), 12 DQ4 (io), 13 DQ3 (io), 14 DQ2 (io), 15 DQ1 (io), 16 DQ0 (io), 17 GND (power), 18 A0 (in), 19 A1 (in), 20 A2 (in), 21 A3 (in), 22 A4 (in), 23 A5 (in), 24 A6 (in), 25 A7 (in), 26 A8 (in), 27 A9 (in), 28 A10 (in), 29 A11 (in), 30 A12 (in), 31 A13 (in), 32 A14 (in), 33 A17 (in), 34 A18 (in)

## DS1350BL-100
designator U?
4096K Nonvolatile SRAM with Battery Monitor; Published: 13-Oct-2000; LatestRevisionDate: 17-Jul-2002; LatestRevisionNote: Re-released for DXP Platform.; DatasheetVersion: 25-Feb-1998; PackageVersion: Feb-1998; PackageReference: LPM34; Publisher: Altium Limited; PackageDescription: LPM; 34 Leads; Body 24.6 x 25 mm (LxW typ); Pitch 1.27 mm; ComponentLink1Description: Manufacturer Link; ComponentLink1URL: http://www.maxim-ic.com/; ComponentLink2Description: Datasheet; ComponentLink2URL: http://pdfserv.maxim-ic.com/en/ds/DS1350AB-DS1350Y.pdf
footprint LPM34
pins: 1 ~{BW} (out), 2 A15 (in), 3 A16 (in), 4 ~{RST} (out), 5 VCC (power), 6 ~{WE} (in), 7 ~{OE} (in), 8 ~{CE} (in), 9 DQ7 (io), 10 DQ6 (io), 11 DQ5 (io), 12 DQ4 (io), 13 DQ3 (io), 14 DQ2 (io), 15 DQ1 (io), 16 DQ0 (io), 17 GND (power), 18 A0 (in), 19 A1 (in), 20 A2 (in), 21 A3 (in), 22 A4 (in), 23 A5 (in), 24 A6 (in), 25 A7 (in), 26 A8 (in), 27 A9 (in), 28 A10 (in), 29 A11 (in), 30 A12 (in), 31 A13 (in), 32 A14 (in), 33 A17 (in), 34 A18 (in)

## DS1350YL-70
designator U?
4096K Nonvolatile SRAM with Battery Monitor; Published: 13-Oct-2000; LatestRevisionDate: 17-Jul-2002; LatestRevisionNote: Re-released for DXP Platform.; DatasheetVersion: 25-Feb-1998; PackageVersion: Feb-1998; PackageReference: LPM34; Publisher: Altium Limited; PackageDescription: LPM; 34 Leads; Body 24.6 x 25 mm (LxW typ); Pitch 1.27 mm; ComponentLink1Description: Manufacturer Link; ComponentLink1URL: http://www.maxim-ic.com/; ComponentLink2Description: Datasheet; ComponentLink2URL: http://pdfserv.maxim-ic.com/en/ds/DS1350AB-DS1350Y.pdf
footprint LPM34
pins: 1 ~{BW} (out), 2 A15 (in), 3 A16 (in), 4 ~{RST} (out), 5 VCC (power), 6 ~{WE} (in), 7 ~{OE} (in), 8 ~{CE} (in), 9 DQ7 (io), 10 DQ6 (io), 11 DQ5 (io), 12 DQ4 (io), 13 DQ3 (io), 14 DQ2 (io), 15 DQ1 (io), 16 DQ0 (io), 17 GND (power), 18 A0 (in), 19 A1 (in), 20 A2 (in), 21 A3 (in), 22 A4 (in), 23 A5 (in), 24 A6 (in), 25 A7 (in), 26 A8 (in), 27 A9 (in), 28 A10 (in), 29 A11 (in), 30 A12 (in), 31 A13 (in), 32 A14 (in), 33 A17 (in), 34 A18 (in)

## DS1350YL-70-IND
designator U?
4096K Nonvolatile SRAM with Battery Monitor; Published: 13-Oct-2000; LatestRevisionDate: 17-Jul-2002; LatestRevisionNote: Re-released for DXP Platform.; DatasheetVersion: 25-Feb-1998; PackageVersion: Feb-1998; PackageReference: LPM34; Publisher: Altium Limited; PackageDescription: LPM; 34 Leads; Body 24.6 x 25 mm (LxW typ); Pitch 1.27 mm; ComponentLink1Description: Manufacturer Link; ComponentLink1URL: http://www.maxim-ic.com/; ComponentLink2Description: Datasheet; ComponentLink2URL: http://pdfserv.maxim-ic.com/en/ds/DS1350AB-DS1350Y.pdf
footprint LPM34
pins: 1 ~{BW} (out), 2 A15 (in), 3 A16 (in), 4 ~{RST} (out), 5 VCC (power), 6 ~{WE} (in), 7 ~{OE} (in), 8 ~{CE} (in), 9 DQ7 (io), 10 DQ6 (io), 11 DQ5 (io), 12 DQ4 (io), 13 DQ3 (io), 14 DQ2 (io), 15 DQ1 (io), 16 DQ0 (io), 17 GND (power), 18 A0 (in), 19 A1 (in), 20 A2 (in), 21 A3 (in), 22 A4 (in), 23 A5 (in), 24 A6 (in), 25 A7 (in), 26 A8 (in), 27 A9 (in), 28 A10 (in), 29 A11 (in), 30 A12 (in), 31 A13 (in), 32 A14 (in), 33 A17 (in), 34 A18 (in)

## DS1350YL-100
designator U?
4096K Nonvolatile SRAM with Battery Monitor; Published: 13-Oct-2000; LatestRevisionDate: 17-Jul-2002; LatestRevisionNote: Re-released for DXP Platform.; DatasheetVersion: 25-Feb-1998; PackageVersion: Feb-1998; PackageReference: LPM34; Publisher: Altium Limited; PackageDescription: LPM; 34 Leads; Body 24.6 x 25 mm (LxW typ); Pitch 1.27 mm; ComponentLink1Description: Manufacturer Link; ComponentLink1URL: http://www.maxim-ic.com/; ComponentLink2Description: Datasheet; ComponentLink2URL: http://pdfserv.maxim-ic.com/en/ds/DS1350AB-DS1350Y.pdf
footprint LPM34
pins: 1 ~{BW} (out), 2 A15 (in), 3 A16 (in), 4 ~{RST} (out), 5 VCC (power), 6 ~{WE} (in), 7 ~{OE} (in), 8 ~{CE} (in), 9 DQ7 (io), 10 DQ6 (io), 11 DQ5 (io), 12 DQ4 (io), 13 DQ3 (io), 14 DQ2 (io), 15 DQ1 (io), 16 DQ0 (io), 17 GND (power), 18 A0 (in), 19 A1 (in), 20 A2 (in), 21 A3 (in), 22 A4 (in), 23 A5 (in), 24 A6 (in), 25 A7 (in), 26 A8 (in), 27 A9 (in), 28 A10 (in), 29 A11 (in), 30 A12 (in), 31 A13 (in), 32 A14 (in), 33 A17 (in), 34 A18 (in)

## DS1380
designator U?
RAMport; Published: 13-Oct-2000; LatestRevisionDate: 06-Jun-2005; LatestRevisionNote: Stylized 3D Model Added.; DatasheetVersion: 25-Feb-1998; PackageVersion: 1999; PackageReference: DIP24W; Publisher: Altium Limited; PackageDescription: DIP; 24 Leads; Row Spacing 15.24 mm; Pitch 2.54 mm; ComponentLink1Description: Manufacturer Link; ComponentLink1URL: http://www.maxim-ic.com/; ComponentLink2Description: Datasheet; ComponentLink2URL: http://pdfserv.maxim-ic.com/en/ds/DS1380.pdf
footprint DIP24W (DIP; 24 Leads; Row Spacing 15.24 mm; Pitch 2.54 mm)
3D model DIP24W (DIP; 24 Leads; Row Spacing 15.24 mm; Pitch 2.54 mm)
pins: 1 TOL (in), 2 ~{PF} (in), 3 PI1 (in), 4 PO1 (out), 5 PI2 (in), 6 PO2 (out), 7 PI3 (in), 8 PO3 (out), 9 PI4 (in), 10 PO4 (out), 11 PI5 (in), 12 GND (power), 13 PO5 (out), 14 PI6 (in), 15 PO6 (out), 16 GND (power), 17 PI7 (in), 18 PO7 (out), 19 ~{MEM} (in), 20 VBAT (power), 21 PI8 (in), 22 PO8 (out), 23 CLK (in), 24 VCC (power)

## DS1380S
designator U?
RAMport; Published: 13-Oct-2000; LatestRevisionDate: 13-Apr-2006; LatestRevisionNote: IPC-7351 Footprint Added.; DatasheetVersion: 25-Feb-1998; PackageVersion: Feb-1998; PackageReference: SOIC24NB; Publisher: Altium Limited; PackageDescription: 24-Pin Small Outline Integrated Circuit 1.27 mm Pitch; Code_IPC: SOIC127P1047-24; ComponentLink1Description: Manufacturer Link; ComponentLink1URL: http://www.maxim-ic.com/; ComponentLink2Description: Datasheet; ComponentLink2URL: http://pdfserv.maxim-ic.com/en/ds/DS1380.pdf
footprint SOIC24NB_N (SOIC, 24-Leads, Body 15.4x7.5mm, Pitch 1.27mm, IPC Medium Density)
footprint SOIC24NB_L (SOIC, 24-Leads, Body 15.4x7.5mm, Pitch 1.27mm, IPC High Density)
footprint SOIC24NB_M (SOIC, 24-Leads, Body 15.4x7.5mm, Pitch 1.27mm, IPC Low Density)
3D model SOIC24NB (24-Pin Small Outline Integrated Circuit 1.27 mm Pitch)
pins: 1 TOL (in), 2 ~{PF} (in), 3 PI1 (in), 4 PO1 (out), 5 PI2 (in), 6 PO2 (out), 7 PI3 (in), 8 PO3 (out), 9 PI4 (in), 10 PO4 (out), 11 PI5 (in), 12 GND (power), 13 PO5 (out), 14 PI6 (in), 15 PO6 (out), 16 GND (power), 17 PI7 (in), 18 PO7 (out), 19 ~{MEM} (in), 20 VBAT (power), 21 PI8 (in), 22 PO8 (out), 23 CLK (in), 24 VCC (power)

## DS1381
designator U?
Nonvolatile RAMport; Note: Pin numbers 16 and 20 are Not Connected (NC); Published: 13-Oct-2000; LatestRevisionDate: 17-Jul-2002; LatestRevisionNote: PCB footprint, 'DIP-P22(24)/X1.2' replaced; Re-released for DXP Platform.; DatasheetVersion: 25-Feb-1998; PackageReference: ENDIP24C; Publisher: Altium Limited; PackageDescription: DIP; 24 Rectangular pins (2 Absent); Row Space 15.24 mm; Pitch 2.54 mm; ComponentLink1Description: Manufacturer Link; ComponentLink1URL: http://www.maxim-ic.com/; ComponentLink2Description: Datasheet; ComponentLink2URL: http://pdfserv.maxim-ic.com/en/ds/DS1381.pdf
footprint ENDIP24C (DIP; 24 Rectangular pins (2 Absent); Row Space 15.24 mm; Pitch 2.54 mm)
pins: 1 TOL (in), 2 ~{PF} (in), 3 PI1 (in), 4 PO1 (out), 5 PI2 (in), 6 PO2 (out), 7 PI3 (in), 8 PO3 (out), 9 PI4 (in), 10 PO4 (out), 11 PI5 (in), 12 GND (power), 13 PO5 (out), 14 PI6 (in), 15 PO6 (out), 17 PI7 (in), 18 PO7 (out), 19 ~{MEM} (in), 21 PI8 (in), 22 PO8 (out), 23 CLK (in), 24 VCC (power)

## DS1630AB-70
designator U?
Partitionable 256K Nonvolatile SRAM; Published: 13-Oct-2000; LatestRevisionDate: 17-Jul-2002; LatestRevisionNote: PCB footprint, 'DIP-P28/X1.2' replaced; Re-released for DXP Platform.; DatasheetVersion: 25-Feb-1998; PackageReference: ENDIP28A; Publisher: Altium Limited; PackageDescription: DIP; 28 Rectangular Pins; Row Space 15.24 mm; Pitch 2.54 mm; ComponentLink1Description: Manufacturer Link; ComponentLink1URL: http://www.maxim-ic.com/
footprint ENDIP28A (DIP; 28 Rectangular Pins; Row Space 15.24 mm; Pitch 2.54 mm)
pins: 1 A14 (in), 2 A12 (in), 3 A7 (in), 4 A6 (in), 5 A5 (in), 6 A4 (in), 7 A3 (in), 8 A2 (in), 9 A1 (in), 10 A0 (in), 11 DQ0 (io), 12 DQ1 (io), 13 DQ2 (io), 14 GND (power), 15 DQ3 (io), 16 DQ4 (io), 17 DQ5 (io), 18 DQ6 (io), 19 DQ7 (io), 20 ~{CE} (in), 21 A10 (in), 22 ~{OE} (in), 23 A11 (in), 24 A9 (in), 25 A8 (in), 26 A13 (in), 27 ~{WE} (in), 28 VCC (power)

## DS1630AB-70-IND
designator U?
Partitionable 256K Nonvolatile SRAM; Published: 13-Oct-2000; LatestRevisionDate: 17-Jul-2002; LatestRevisionNote: PCB footprint, 'DIP-P28/X1.2' replaced; Re-released for DXP Platform.; DatasheetVersion: 25-Feb-1998; PackageReference: ENDIP28A; Publisher: Altium Limited; PackageDescription: DIP; 28 Rectangular Pins; Row Space 15.24 mm; Pitch 2.54 mm; ComponentLink1Description: Manufacturer Link; ComponentLink1URL: http://www.maxim-ic.com/
footprint ENDIP28A (DIP; 28 Rectangular Pins; Row Space 15.24 mm; Pitch 2.54 mm)
pins: 1 A14 (in), 2 A12 (in), 3 A7 (in), 4 A6 (in), 5 A5 (in), 6 A4 (in), 7 A3 (in), 8 A2 (in), 9 A1 (in), 10 A0 (in), 11 DQ0 (io), 12 DQ1 (io), 13 DQ2 (io), 14 GND (power), 15 DQ3 (io), 16 DQ4 (io), 17 DQ5 (io), 18 DQ6 (io), 19 DQ7 (io), 20 ~{CE} (in), 21 A10 (in), 22 ~{OE} (in), 23 A11 (in), 24 A9 (in), 25 A8 (in), 26 A13 (in), 27 ~{WE} (in), 28 VCC (power)

## DS1630AB-85
designator U?
Partitionable 256K Nonvolatile SRAM; Published: 13-Oct-2000; LatestRevisionDate: 17-Jul-2002; LatestRevisionNote: PCB footprint, 'DIP-P28/X1.2' replaced; Re-released for DXP Platform.; DatasheetVersion: 25-Feb-1998; PackageReference: ENDIP28A; Publisher: Altium Limited; PackageDescription: DIP; 28 Rectangular Pins; Row Space 15.24 mm; Pitch 2.54 mm; ComponentLink1Description: Manufacturer Link; ComponentLink1URL: http://www.maxim-ic.com/
footprint ENDIP28A (DIP; 28 Rectangular Pins; Row Space 15.24 mm; Pitch 2.54 mm)
pins: 1 A14 (in), 2 A12 (in), 3 A7 (in), 4 A6 (in), 5 A5 (in), 6 A4 (in), 7 A3 (in), 8 A2 (in), 9 A1 (in), 10 A0 (in), 11 DQ0 (io), 12 DQ1 (io), 13 DQ2 (io), 14 GND (power), 15 DQ3 (io), 16 DQ4 (io), 17 DQ5 (io), 18 DQ6 (io), 19 DQ7 (io), 20 ~{CE} (in), 21 A10 (in), 22 ~{OE} (in), 23 A11 (in), 24 A9 (in), 25 A8 (in), 26 A13 (in), 27 ~{WE} (in), 28 VCC (power)

## DS1630AB-100
designator U?
Partitionable 256K Nonvolatile SRAM; Published: 13-Oct-2000; LatestRevisionDate: 17-Jul-2002; LatestRevisionNote: PCB footprint, 'DIP-P28/X1.2' replaced; Re-released for DXP Platform.; DatasheetVersion: 25-Feb-1998; PackageReference: ENDIP28A; Publisher: Altium Limited; PackageDescription: DIP; 28 Rectangular Pins; Row Space 15.24 mm; Pitch 2.54 mm; ComponentLink1Description: Manufacturer Link; ComponentLink1URL: http://www.maxim-ic.com/
footprint ENDIP28A (DIP; 28 Rectangular Pins; Row Space 15.24 mm; Pitch 2.54 mm)
pins: 1 A14 (in), 2 A12 (in), 3 A7 (in), 4 A6 (in), 5 A5 (in), 6 A4 (in), 7 A3 (in), 8 A2 (in), 9 A1 (in), 10 A0 (in), 11 DQ0 (io), 12 DQ1 (io), 13 DQ2 (io), 14 GND (power), 15 DQ3 (io), 16 DQ4 (io), 17 DQ5 (io), 18 DQ6 (io), 19 DQ7 (io), 20 ~{CE} (in), 21 A10 (in), 22 ~{OE} (in), 23 A11 (in), 24 A9 (in), 25 A8 (in), 26 A13 (in), 27 ~{WE} (in), 28 VCC (power)

## DS1630AB-120
designator U?
Partitionable 256K Nonvolatile SRAM; Published: 13-Oct-2000; LatestRevisionDate: 17-Jul-2002; LatestRevisionNote: PCB footprint, 'DIP-P28/X1.2' replaced; Re-released for DXP Platform.; DatasheetVersion: 25-Feb-1998; PackageReference: ENDIP28A; Publisher: Altium Limited; PackageDescription: DIP; 28 Rectangular Pins; Row Space 15.24 mm; Pitch 2.54 mm; ComponentLink1Description: Manufacturer Link; ComponentLink1URL: http://www.maxim-ic.com/
footprint ENDIP28A (DIP; 28 Rectangular Pins; Row Space 15.24 mm; Pitch 2.54 mm)
pins: 1 A14 (in), 2 A12 (in), 3 A7 (in), 4 A6 (in), 5 A5 (in), 6 A4 (in), 7 A3 (in), 8 A2 (in), 9 A1 (in), 10 A0 (in), 11 DQ0 (io), 12 DQ1 (io), 13 DQ2 (io), 14 GND (power), 15 DQ3 (io), 16 DQ4 (io), 17 DQ5 (io), 18 DQ6 (io), 19 DQ7 (io), 20 ~{CE} (in), 21 A10 (in), 22 ~{OE} (in), 23 A11 (in), 24 A9 (in), 25 A8 (in), 26 A13 (in), 27 ~{WE} (in), 28 VCC (power)

## DS1630BL-70
designator U?
Partitionable 256K Nonvolatile SRAM; Note: Pin numbers 1, 2, 3, 33 and 34 are Not Connected (NC); Published: 13-Oct-2000; LatestRevisionDate: 17-Jul-2002; LatestRevisionNote: Re-released for DXP Platform.; DatasheetVersion: 25-Feb-1998; PackageVersion: Feb-1998; PackageReference: LPM34; Publisher: Altium Limited; PackageDescription: LPM; 34 Leads; Body 24.6 x 25 mm (LxW typ); Pitch 1.27 mm; ComponentLink1Description: Manufacturer Link; ComponentLink1URL: http://www.maxim-ic.com/
footprint LPM34
pins: 1 NC, 2 NC, 3 NC, 4 ~{PFO} (out), 5 VCC (power), 6 ~{WE} (in), 7 ~{OE} (in), 8 ~{CE} (in), 9 DQ7 (io), 10 DQ6 (io), 11 DQ5 (io), 12 DQ4 (io), 13 DQ3 (io), 14 DQ2 (io), 15 DQ1 (io), 16 DQ0 (io), 17 GND (power), 18 A0 (in), 19 A1 (in), 20 A2 (in), 21 A3 (in), 22 A4 (in), 23 A5 (in), 24 A6 (in), 25 A7 (in), 26 A8 (in), 27 A9 (in), 28 A10 (in), 29 A11 (in), 30 A12 (in), 31 A13 (in), 32 A14 (in), 33 NC, 34 NC

## DS1630BL-70-IND
designator U?
Partitionable 256K Nonvolatile SRAM; Note: Pin numbers 1, 2, 3, 33 and 34 are Not Connected (NC); Published: 13-Oct-2000; LatestRevisionDate: 17-Jul-2002; LatestRevisionNote: Re-released for DXP Platform.; DatasheetVersion: 25-Feb-1998; PackageVersion: Feb-1998; PackageReference: LPM34; Publisher: Altium Limited; PackageDescription: LPM; 34 Leads; Body 24.6 x 25 mm (LxW typ); Pitch 1.27 mm; ComponentLink1Description: Manufacturer Link; ComponentLink1URL: http://www.maxim-ic.com/
footprint LPM34
pins: 1 NC, 2 NC, 3 NC, 4 ~{PFO} (out), 5 VCC (power), 6 ~{WE} (in), 7 ~{OE} (in), 8 ~{CE} (in), 9 DQ7 (io), 10 DQ6 (io), 11 DQ5 (io), 12 DQ4 (io), 13 DQ3 (io), 14 DQ2 (io), 15 DQ1 (io), 16 DQ0 (io), 17 GND (power), 18 A0 (in), 19 A1 (in), 20 A2 (in), 21 A3 (in), 22 A4 (in), 23 A5 (in), 24 A6 (in), 25 A7 (in), 26 A8 (in), 27 A9 (in), 28 A10 (in), 29 A11 (in), 30 A12 (in), 31 A13 (in), 32 A14 (in), 33 NC, 34 NC

## DS1630BL-100
designator U?
Partitionable 256K Nonvolatile SRAM; Note: Pin numbers 1, 2, 3, 33 and 34 are Not Connected (NC); Published: 13-Oct-2000; LatestRevisionDate: 17-Jul-2002; LatestRevisionNote: Re-released for DXP Platform.; DatasheetVersion: 25-Feb-1998; PackageVersion: Feb-1998; PackageReference: LPM34; Publisher: Altium Limited; PackageDescription: LPM; 34 Leads; Body 24.6 x 25 mm (LxW typ); Pitch 1.27 mm; ComponentLink1Description: Manufacturer Link; ComponentLink1URL: http://www.maxim-ic.com/
footprint LPM34
pins: 1 NC, 2 NC, 3 NC, 4 ~{PFO} (out), 5 VCC (power), 6 ~{WE} (in), 7 ~{OE} (in), 8 ~{CE} (in), 9 DQ7 (io), 10 DQ6 (io), 11 DQ5 (io), 12 DQ4 (io), 13 DQ3 (io), 14 DQ2 (io), 15 DQ1 (io), 16 DQ0 (io), 17 GND (power), 18 A0 (in), 19 A1 (in), 20 A2 (in), 21 A3 (in), 22 A4 (in), 23 A5 (in), 24 A6 (in), 25 A7 (in), 26 A8 (in), 27 A9 (in), 28 A10 (in), 29 A11 (in), 30 A12 (in), 31 A13 (in), 32 A14 (in), 33 NC, 34 NC

## DS1630Y-70
designator U?
Partitionable 256K Nonvolatile SRAM; Published: 13-Oct-2000; LatestRevisionDate: 17-Jul-2002; LatestRevisionNote: PCB footprint, 'DIP-P28/X1.2' replaced; Re-released for DXP Platform.; DatasheetVersion: 25-Feb-1998; PackageReference: ENDIP28A; Publisher: Altium Limited; PackageDescription: DIP; 28 Rectangular Pins; Row Space 15.24 mm; Pitch 2.54 mm; ComponentLink1Description: Manufacturer Link; ComponentLink1URL: http://www.maxim-ic.com/
footprint ENDIP28A (DIP; 28 Rectangular Pins; Row Space 15.24 mm; Pitch 2.54 mm)
pins: 1 A14 (in), 2 A12 (in), 3 A7 (in), 4 A6 (in), 5 A5 (in), 6 A4 (in), 7 A3 (in), 8 A2 (in), 9 A1 (in), 10 A0 (in), 11 DQ0 (io), 12 DQ1 (io), 13 DQ2 (io), 14 GND (power), 15 DQ3 (io), 16 DQ4 (io), 17 DQ5 (io), 18 DQ6 (io), 19 DQ7 (io), 20 ~{CE} (in), 21 A10 (in), 22 ~{OE} (in), 23 A11 (in), 24 A9 (in), 25 A8 (in), 26 A13 (in), 27 ~{WE} (in), 28 VCC (power)

## DS1630Y-70-IND
designator U?
Partitionable 256K Nonvolatile SRAM; Published: 13-Oct-2000; LatestRevisionDate: 17-Jul-2002; LatestRevisionNote: PCB footprint, 'DIP-P28/X1.2' replaced; Re-released for DXP Platform.; DatasheetVersion: 25-Feb-1998; PackageReference: ENDIP28A; Publisher: Altium Limited; PackageDescription: DIP; 28 Rectangular Pins; Row Space 15.24 mm; Pitch 2.54 mm; ComponentLink1Description: Manufacturer Link; ComponentLink1URL: http://www.maxim-ic.com/
footprint ENDIP28A (DIP; 28 Rectangular Pins; Row Space 15.24 mm; Pitch 2.54 mm)
pins: 1 A14 (in), 2 A12 (in), 3 A7 (in), 4 A6 (in), 5 A5 (in), 6 A4 (in), 7 A3 (in), 8 A2 (in), 9 A1 (in), 10 A0 (in), 11 DQ0 (io), 12 DQ1 (io), 13 DQ2 (io), 14 GND (power), 15 DQ3 (io), 16 DQ4 (io), 17 DQ5 (io), 18 DQ6 (io), 19 DQ7 (io), 20 ~{CE} (in), 21 A10 (in), 22 ~{OE} (in), 23 A11 (in), 24 A9 (in), 25 A8 (in), 26 A13 (in), 27 ~{WE} (in), 28 VCC (power)

## DS1630Y-85
designator U?
Partitionable 256K Nonvolatile SRAM; Published: 13-Oct-2000; LatestRevisionDate: 17-Jul-2002; LatestRevisionNote: PCB footprint, 'DIP-P28/X1.2' replaced; Re-released for DXP Platform.; DatasheetVersion: 25-Feb-1998; PackageReference: ENDIP28A; Publisher: Altium Limited; PackageDescription: DIP; 28 Rectangular Pins; Row Space 15.24 mm; Pitch 2.54 mm; ComponentLink1Description: Manufacturer Link; ComponentLink1URL: http://www.maxim-ic.com/
footprint ENDIP28A (DIP; 28 Rectangular Pins; Row Space 15.24 mm; Pitch 2.54 mm)
pins: 1 A14 (in), 2 A12 (in), 3 A7 (in), 4 A6 (in), 5 A5 (in), 6 A4 (in), 7 A3 (in), 8 A2 (in), 9 A1 (in), 10 A0 (in), 11 DQ0 (io), 12 DQ1 (io), 13 DQ2 (io), 14 GND (power), 15 DQ3 (io), 16 DQ4 (io), 17 DQ5 (io), 18 DQ6 (io), 19 DQ7 (io), 20 ~{CE} (in), 21 A10 (in), 22 ~{OE} (in), 23 A11 (in), 24 A9 (in), 25 A8 (in), 26 A13 (in), 27 ~{WE} (in), 28 VCC (power)

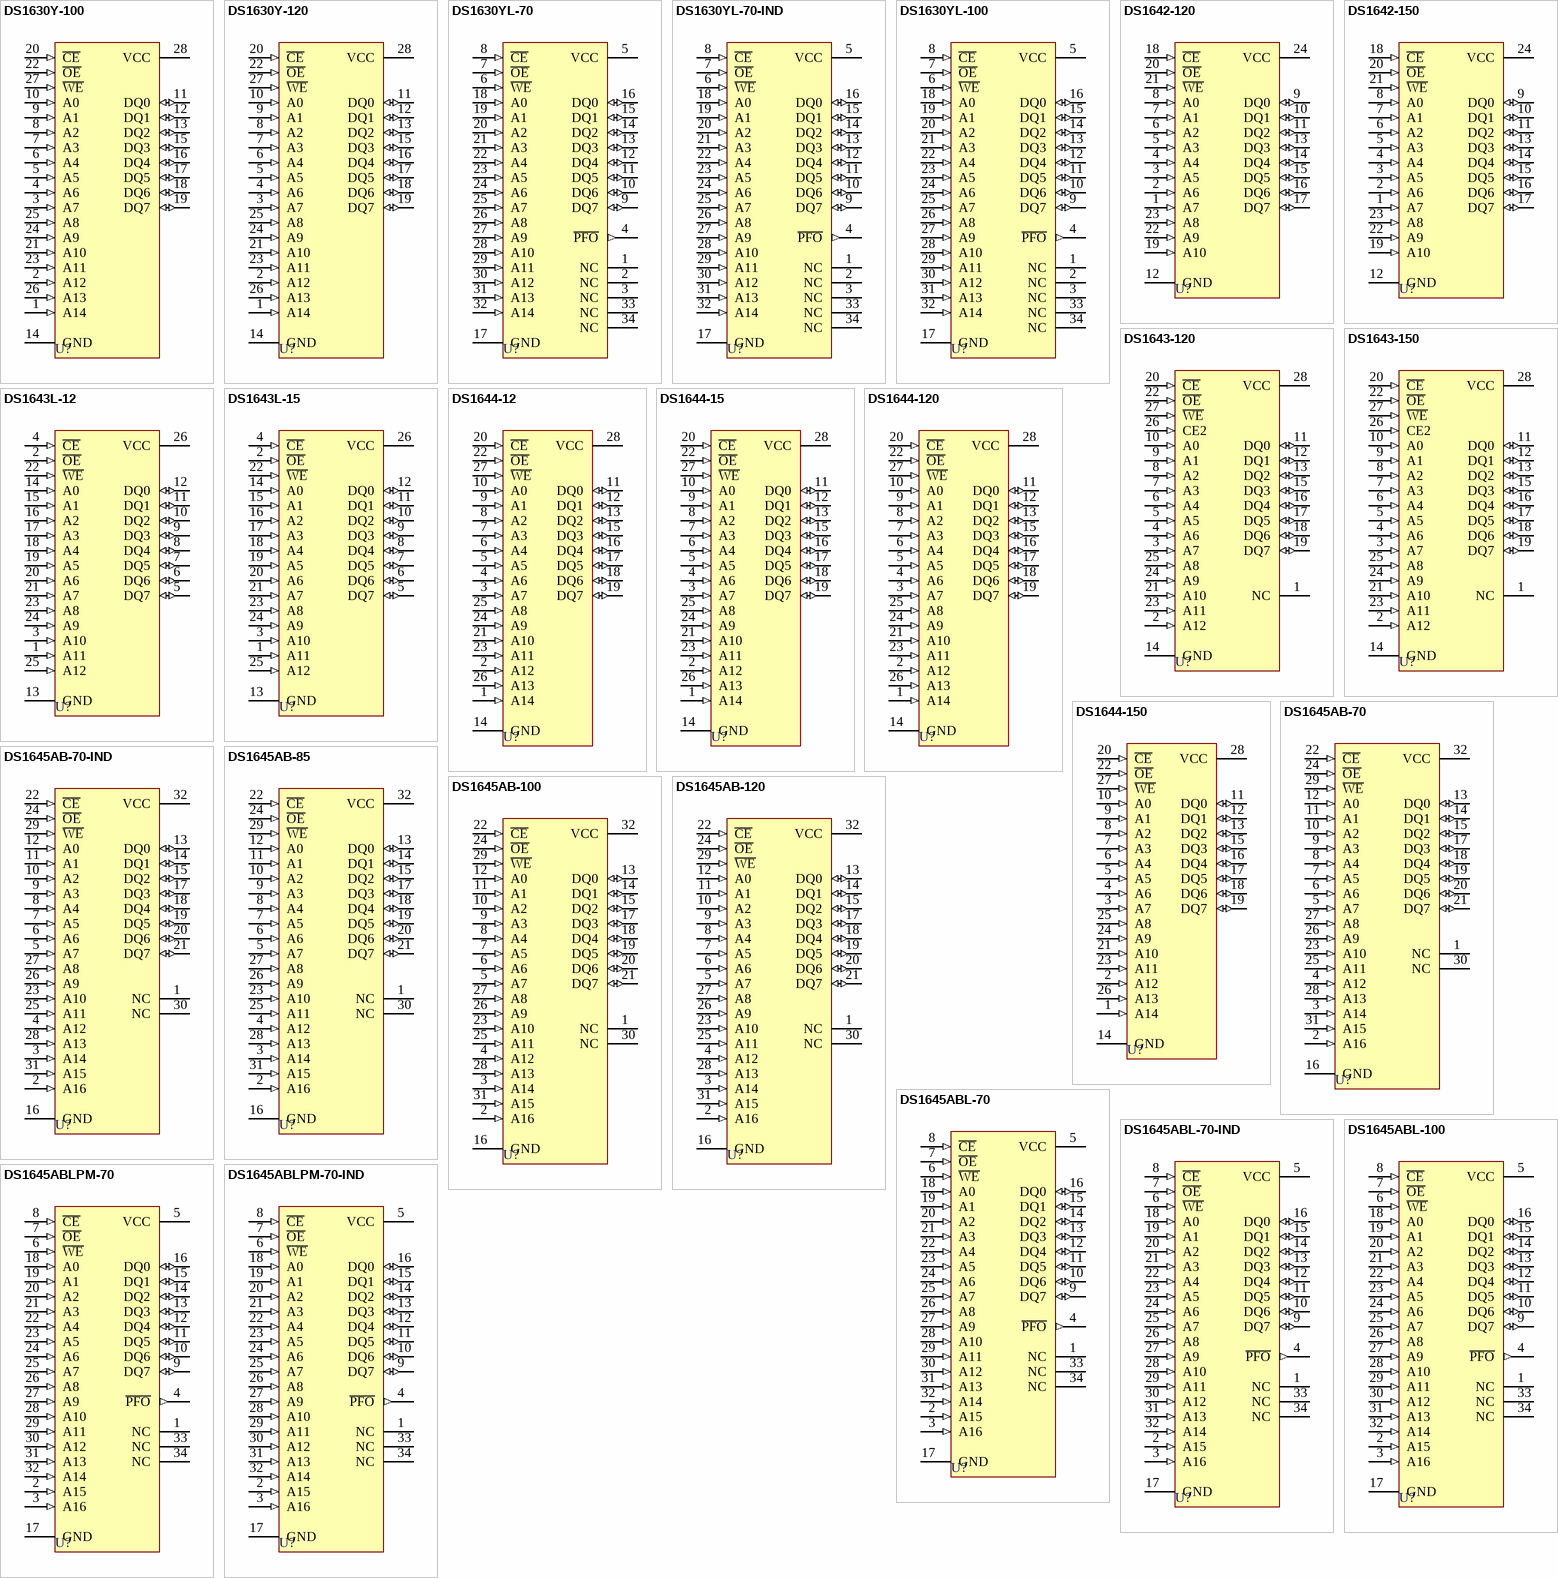
[diagram p6: symbols DS1630Y-100 to DS1645ABLPM-70-IND]

## DS1630Y-100
designator U?
Partitionable 256K Nonvolatile SRAM; Published: 13-Oct-2000; LatestRevisionDate: 17-Jul-2002; LatestRevisionNote: PCB footprint, 'DIP-P28/X1.2' replaced; Re-released for DXP Platform.; DatasheetVersion: 25-Feb-1998; PackageReference: ENDIP28A; Publisher: Altium Limited; PackageDescription: DIP; 28 Rectangular Pins; Row Space 15.24 mm; Pitch 2.54 mm; ComponentLink1Description: Manufacturer Link; ComponentLink1URL: http://www.maxim-ic.com/
footprint ENDIP28A (DIP; 28 Rectangular Pins; Row Space 15.24 mm; Pitch 2.54 mm)
pins: 1 A14 (in), 2 A12 (in), 3 A7 (in), 4 A6 (in), 5 A5 (in), 6 A4 (in), 7 A3 (in), 8 A2 (in), 9 A1 (in), 10 A0 (in), 11 DQ0 (io), 12 DQ1 (io), 13 DQ2 (io), 14 GND (power), 15 DQ3 (io), 16 DQ4 (io), 17 DQ5 (io), 18 DQ6 (io), 19 DQ7 (io), 20 ~{CE} (in), 21 A10 (in), 22 ~{OE} (in), 23 A11 (in), 24 A9 (in), 25 A8 (in), 26 A13 (in), 27 ~{WE} (in), 28 VCC (power)

## DS1630Y-120
designator U?
Partitionable 256K Nonvolatile SRAM; Published: 13-Oct-2000; LatestRevisionDate: 17-Jul-2002; LatestRevisionNote: PCB footprint, 'DIP-P28/X1.2' replaced; Re-released for DXP Platform.; DatasheetVersion: 25-Feb-1998; PackageReference: ENDIP28A; Publisher: Altium Limited; PackageDescription: DIP; 28 Rectangular Pins; Row Space 15.24 mm; Pitch 2.54 mm; ComponentLink1Description: Manufacturer Link; ComponentLink1URL: http://www.maxim-ic.com/
footprint ENDIP28A (DIP; 28 Rectangular Pins; Row Space 15.24 mm; Pitch 2.54 mm)
pins: 1 A14 (in), 2 A12 (in), 3 A7 (in), 4 A6 (in), 5 A5 (in), 6 A4 (in), 7 A3 (in), 8 A2 (in), 9 A1 (in), 10 A0 (in), 11 DQ0 (io), 12 DQ1 (io), 13 DQ2 (io), 14 GND (power), 15 DQ3 (io), 16 DQ4 (io), 17 DQ5 (io), 18 DQ6 (io), 19 DQ7 (io), 20 ~{CE} (in), 21 A10 (in), 22 ~{OE} (in), 23 A11 (in), 24 A9 (in), 25 A8 (in), 26 A13 (in), 27 ~{WE} (in), 28 VCC (power)